# Altium integrated library Maxim Sensors.IntLib: 1172 symbols (part 41 of 61)
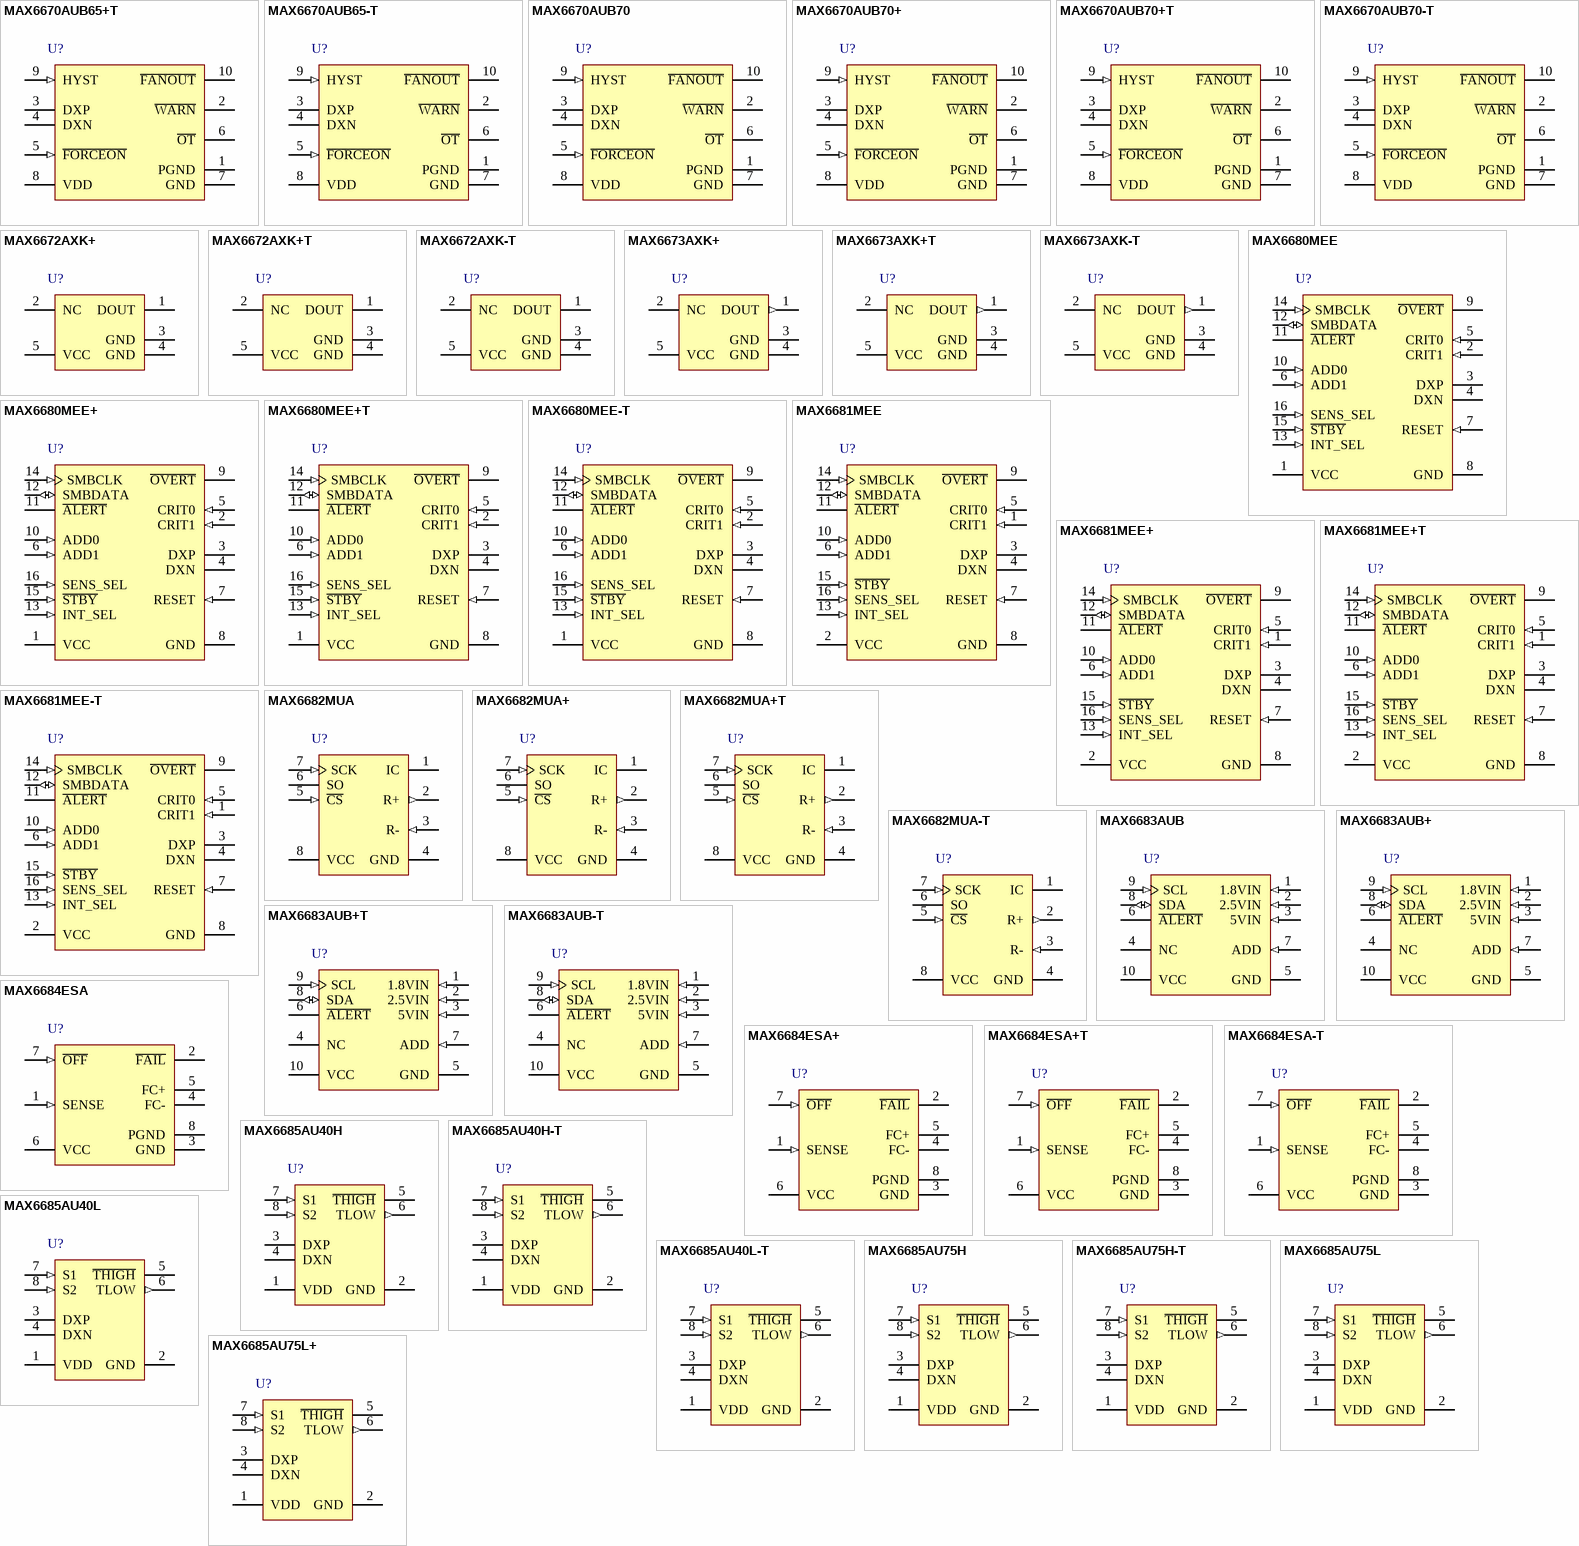
[diagram p73: symbols MAX6670AUB65+T to MAX6685AU75L+]

## MAX6672AXK+T
designator U?
PWM-Output Temperature Sensor with an Open Drain Output, -40 to 125 degC, 5-Pin SOT23 (X5+1), Pb-Free, Tape and Reel; Generic Part Number: MAX6672; PartNumber: MAX6672AXK+T; Interface: PWM; Parasite Pwr.: No; DatasheetVersion: Rev. 0; PackageVersion: Rev. F, 06/2011; PackageReference: X5+1; PackageDescription: 5-Pin SC70 Transistor Package (X5+1), Body 2 x 1.25 mm, Pitch 0.65 mm; Supplier 1: Digi-Key; Supplier Part Number 1: MAX6672AXK+T-ND; Supplier 2: Mouser; Supplier Part Number 2: 700-MAX6672AXKT; Packing: Tape and Reel; Mounting Technology: Surface Mount; Code_JEDEC: MO-203; ComponentLink1Description: Manufacturer URL; ComponentLink1URL: http://www.maximintegrated.com/; ComponentLink2Description: Datasheet; ComponentLink2URL: http://datasheets.maximintegrated.com/en/ds/MAX6672-MAX6673.pdf; ComponentLink3Description: Package Specification; ComponentLink3URL: http://pdfserv.maximintegrated.com/package_dwgs/21-0076.PDF
footprint MAXM-X5+1_N (SOT23, 5-Leads, Body 2x1.25mm, Pitch 0.65mm, IPC Medium Density)
footprint MAXM-X5+1_L (SOT23, 5-Leads, Body 2x1.25mm, Pitch 0.65mm, IPC High Density)
footprint MAXM-X5+1_M (SOT23, 5-Leads, Body 2x1.25mm, Pitch 0.65mm, IPC Low Density)
pins: 1 DOUT (oc) "Digital Output Pin. PWM output, open-drain output (MAX6672)", 2 NC "No Connection. Not internally connected", 3 GND (power) "Pin 3 and Pin 4 must be tied together and connected to ground", 4 GND (power) "Pin 3 and Pin 4 must be tied together and connected to ground", 5 VCC (power) "Positive Supply. Bypass with a 0.1uF capacitor to GND."

## MAX6672AXK-T
designator U?
PWM-Output Temperature Sensor with an Open Drain Output, -40 to 125 degC, 5-Pin SOT23 (X5-1), Tape and Reel; Generic Part Number: MAX6672; PartNumber: MAX6672AXK-T; Interface: PWM; Parasite Pwr.: No; DatasheetVersion: Rev. 0; PackageVersion: Rev. F, 06/2011; PackageReference: X5-1; PackageDescription: 5-Pin SC70 Transistor Package (X5-1), Body 2 x 1.25 mm, Pitch 0.65 mm; Supplier 1: Mouser; Supplier Part Number 1: N/A; Packing: Tape and Reel; Mounting Technology: Surface Mount; Code_JEDEC: MO-203; ComponentLink1Description: Manufacturer URL; ComponentLink1URL: http://www.maximintegrated.com/; ComponentLink2Description: Datasheet; ComponentLink2URL: http://datasheets.maximintegrated.com/en/ds/MAX6672-MAX6673.pdf; ComponentLink3Description: Package Specification; ComponentLink3URL: http://pdfserv.maximintegrated.com/package_dwgs/21-0076.PDF
footprint MAXM-X5-1_N (SOT23, 5-Leads, Body 2x1.25mm, Pitch 0.65mm, IPC Medium Density)
footprint MAXM-X5-1_L (SOT23, 5-Leads, Body 2x1.25mm, Pitch 0.65mm, IPC High Density)
footprint MAXM-X5-1_M (SOT23, 5-Leads, Body 2x1.25mm, Pitch 0.65mm, IPC Low Density)
pins: 1 DOUT (oc) "Digital Output Pin. PWM output, open-drain output (MAX6672)", 2 NC "No Connection. Not internally connected", 3 GND (power) "Pin 3 and Pin 4 must be tied together and connected to ground", 4 GND (power) "Pin 3 and Pin 4 must be tied together and connected to ground", 5 VCC (power) "Positive Supply. Bypass with a 0.1uF capacitor to GND."

## MAX6673AXK+
designator U?
PWM-Output Temperature Sensor with a Push-Pull Output, -40 to 125 degC, 5-Pin SOT23 (X5+1), Pb-Free; Generic Part Number: MAX6673; PartNumber: MAX6673AXK+; Interface: PWM; Parasite Pwr.: No; DatasheetVersion: Rev. 0; PackageVersion: Rev. F, 06/2011; PackageReference: X5+1; PackageDescription: 5-Pin SC70 Transistor Package (X5+1), Body 2 x 1.25 mm, Pitch 0.65 mm; Supplier 1: Mouser; Supplier Part Number 1: N/A; Mounting Technology: Surface Mount; Code_JEDEC: MO-203; ComponentLink1Description: Manufacturer URL; ComponentLink1URL: http://www.maximintegrated.com/; ComponentLink2Description: Datasheet; ComponentLink2URL: http://datasheets.maximintegrated.com/en/ds/MAX6672-MAX6673.pdf; ComponentLink3Description: Package Specification; ComponentLink3URL: http://pdfserv.maximintegrated.com/package_dwgs/21-0076.PDF
footprint MAXM-X5+1_N (SOT23, 5-Leads, Body 2x1.25mm, Pitch 0.65mm, IPC Medium Density)
footprint MAXM-X5+1_L (SOT23, 5-Leads, Body 2x1.25mm, Pitch 0.65mm, IPC High Density)
footprint MAXM-X5+1_M (SOT23, 5-Leads, Body 2x1.25mm, Pitch 0.65mm, IPC Low Density)
pins: 1 DOUT (out) "Digital Output Pin. PWM output, push-pull output (MAX6673).", 2 NC "No Connection. Not internally connected", 3 GND (power) "Pin 3 and Pin 4 must be tied together and connected to ground", 4 GND (power) "Pin 3 and Pin 4 must be tied together and connected to ground", 5 VCC (power) "Positive Supply. Bypass with a 0.1uF capacitor to GND."

## MAX6673AXK+T
designator U?
PWM-Output Temperature Sensor with a Push-Pull Output, -40 to 125 degC, 5-Pin SOT23 (X5+1), Pb-Free, Tape and Reel; Generic Part Number: MAX6673; PartNumber: MAX6673AXK+T; Interface: PWM; Parasite Pwr.: No; DatasheetVersion: Rev. 0; PackageVersion: Rev. F, 06/2011; PackageReference: X5+1; PackageDescription: 5-Pin SC70 Transistor Package (X5+1), Body 2 x 1.25 mm, Pitch 0.65 mm; Supplier 1: Digi-Key; Supplier Part Number 1: MAX6673AXK+TTR-ND; Supplier 2: Digi-Key; Supplier Part Number 2: MAX6673AXK+TCT-ND; Supplier 3: Digi-Key; Supplier Part Number 3: MAX6673AXK+TDKR-ND; Supplier 4: Farnell; Supplier Part Number 4: 1569964; Supplier 5: Mouser; Supplier Part Number 5: 700-MAX6673AXKT; Packing: Tape and Reel; Mounting Technology: Surface Mount; Code_JEDEC: MO-203; ComponentLink1Description: Manufacturer URL; ComponentLink1URL: http://www.maximintegrated.com/; ComponentLink2Description: Datasheet; ComponentLink2URL: http://datasheets.maximintegrated.com/en/ds/MAX6672-MAX6673.pdf; ComponentLink3Description: Package Specification; ComponentLink3URL: http://pdfserv.maximintegrated.com/package_dwgs/21-0076.PDF
footprint MAXM-X5+1_N (SOT23, 5-Leads, Body 2x1.25mm, Pitch 0.65mm, IPC Medium Density)
footprint MAXM-X5+1_L (SOT23, 5-Leads, Body 2x1.25mm, Pitch 0.65mm, IPC High Density)
footprint MAXM-X5+1_M (SOT23, 5-Leads, Body 2x1.25mm, Pitch 0.65mm, IPC Low Density)
pins: 1 DOUT (out) "Digital Output Pin. PWM output, push-pull output (MAX6673).", 2 NC "No Connection. Not internally connected", 3 GND (power) "Pin 3 and Pin 4 must be tied together and connected to ground", 4 GND (power) "Pin 3 and Pin 4 must be tied together and connected to ground", 5 VCC (power) "Positive Supply. Bypass with a 0.1uF capacitor to GND."

## MAX6673AXK-T
designator U?
PWM-Output Temperature Sensor with a Push-Pull Output, -40 to 125 degC, 5-Pin SOT23 (X5-1), Tape and Reel; Generic Part Number: MAX6673; PartNumber: MAX6673AXK-T; Interface: PWM; Parasite Pwr.: No; DatasheetVersion: Rev. 0; PackageVersion: Rev. F, 06/2011; PackageReference: X5-1; PackageDescription: 5-Pin SC70 Transistor Package (X5-1), Body 2 x 1.25 mm, Pitch 0.65 mm; Packing: Tape and Reel; Mounting Technology: Surface Mount; Code_JEDEC: MO-203; ComponentLink1Description: Manufacturer URL; ComponentLink1URL: http://www.maximintegrated.com/; ComponentLink2Description: Datasheet; ComponentLink2URL: http://datasheets.maximintegrated.com/en/ds/MAX6672-MAX6673.pdf; ComponentLink3Description: Package Specification; ComponentLink3URL: http://pdfserv.maximintegrated.com/package_dwgs/21-0076.PDF
footprint MAXM-X5-1_N (SOT23, 5-Leads, Body 2x1.25mm, Pitch 0.65mm, IPC Medium Density)
footprint MAXM-X5-1_L (SOT23, 5-Leads, Body 2x1.25mm, Pitch 0.65mm, IPC High Density)
footprint MAXM-X5-1_M (SOT23, 5-Leads, Body 2x1.25mm, Pitch 0.65mm, IPC Low Density)
pins: 1 DOUT (out) "Digital Output Pin. PWM output, push-pull output (MAX6673).", 2 NC "No Connection. Not internally connected", 3 GND (power) "Pin 3 and Pin 4 must be tied together and connected to ground", 4 GND (power) "Pin 3 and Pin 4 must be tied together and connected to ground", 5 VCC (power) "Positive Supply. Bypass with a 0.1uF capacitor to GND."

## MAX6680MEE
designator U?
+ / -1 degC Fail-Safe Remote / Local Temperature Sensor with SMBus Interface, 11 Bits Temperature Resolution, -55 to 125 degC, 16-Pin SOP (E16-1); Generic Part Number: MAX6680; PartNumber: MAX6680MEE; Alarm Output: Alert, Overt; Functions: Fan Controller, Remote & Local Sensor; Interface: 2-Wire/I2C/SMBus; Multi Droppable: Yes; Parasite Pwr.: No; DatasheetVersion: Rev. 1; PackageVersion: Rev. K, 04/2012; PackageReference: E16-1; PackageDescription: 16-Pin Quarter Small-Outline Package (E16-1), Body 4.90 x 3.89 mm, Pitch 0.635 mm; Mounting Technology: Surface Mount; Code_JEDEC: MO137; ComponentLink1Description: Manufacturer URL; ComponentLink1URL: http://www.maximintegrated.com/; ComponentLink2Description: Datasheet; ComponentLink2URL: http://datasheets.maximintegrated.com/en/ds/MAX6680-MAX6681.pdf; ComponentLink3Description: Package Specification; ComponentLink3URL: http://pdfserv.maximintegrated.com/package_dwgs/21-0055.PDF
footprint MAXM-E16-1_N (SOP, 16-Leads, Body 4.9x3.89mm, Pitch 0.635mm, IPC Medium Density)
footprint MAXM-E16-1_L (SOP, 16-Leads, Body 4.9x3.89mm, Pitch 0.635mm, IPC High Density)
footprint MAXM-E16-1_M (SOP, 16-Leads, Body 4.9x3.89mm, Pitch 0.635mm, IPC Low Density)
pins: 1 VCC (power) "Supply Voltage Input, 3V to 5.5V. Bypass VCC to GND with a 0.1uF capacitor. A 200 ohm series resistor is recommended, but not required for additional noise filtering. See the Typical Operating Circuit.", 2 CRIT1 (in) "Hardware-Programmable Default Alarm Threshold for O\V\E\R\T\ Limits. Use Table 4 to set default temperatures.", 3 DXP "Combined Remote-Diode Current Source and A/D Positive Input for Remote- Diode Channel. DO NOT LEAVE DXP FLOATING; connect DXP to DXN if no remote diode is used. Place a 2200pF capacitor between DXP and DXN for noise (See Datasheet)", 4 DXN "Combined Remote-Diode Current Sink and A/D Negative Input. DXN is internally biased to one diode drop above ground.", 5 CRIT0 (in) "Hardware-Programmable Default Alarm Threshold for O\V\E\R\T\ Limits. Use Table 4 to set default temperatures.", 6 ADD1 (in) "SMBus Address Select Pin (Table 9). ADD0 and ADD1 are sampled upon power-up. Excess capacitance (>50pF) at the address pins when floating may cause address-recognition problems.", 7 RESET (in) "Reset Input. Drive RESET high to set all registers to their default values (POR state). Drive RESET low or leave floating for normal operation.", 8 GND (power) "Ground", 9 ~{OVERT} (oc) "Overtemperature Active-Low Output. Open drain.", 10 ADD0 (in) "SMBus Slave Address Select Pin (see ADD1).", 11 ~{ALERT} (oc) "SMBus Alert (Interrupt) Active-Low Output. Open drain.", 12 SMBDATA (io) "SMBus Serial-Data Input/Output, Open Drain", 13 INT_SEL (in) "Input. Connect high or leave floating to conform to the standard SMBus A\L\E\R\T\ protocol. See the A\L\E\R\T\ Interrupts section. Connect to GND to invoke comparator mode, where A\L\E\R\T\ is asserted whenever any of the (See Datasheet)", 14 SMBCLK (in) "SMBus Serial-Clock Input", 15 ~{STBY} (in) "Input. Hardware Standby. Connect to ground to place in device in standby. Supply current drops below 10uA and all registers’ data are maintained.", 16 SENS_SEL (in) "Input. Selects which temperature sensor (local, remote, or both) activates O\V\E\R\T\"

## MAX6680MEE+
designator U?
+ / -1 degC Fail-Safe Remote / Local Temperature Sensor with SMBus Interface, 11 Bits Temperature Resolution, -55 to 125 degC, 16-Pin SOP (E16+1), Pb-Free; Generic Part Number: MAX6680; PartNumber: MAX6680MEE+; Alarm Output: Alert, Overt; Functions: Fan Controller, Remote & Local Sensor; Interface: 2-Wire/I2C/SMBus; Multi Droppable: Yes; Parasite Pwr.: No; DatasheetVersion: Rev. 1; PackageVersion: Rev. K, 04/2012; PackageReference: E16+1; PackageDescription: 16-Pin Quarter Small-Outline Package (E16+1), Body 4.90 x 3.89 mm, Pitch 0.635 mm; Supplier 1: Digi-Key; Supplier Part Number 1: MAX6680MEE+-ND; Supplier 2: Mouser; Supplier Part Number 2: 700-MAX6680MEE; Mounting Technology: Surface Mount; Code_JEDEC: MO137; ComponentLink1Description: Manufacturer URL; ComponentLink1URL: http://www.maximintegrated.com/; ComponentLink2Description: Datasheet; ComponentLink2URL: http://datasheets.maximintegrated.com/en/ds/MAX6680-MAX6681.pdf; ComponentLink3Description: Package Specification; ComponentLink3URL: http://pdfserv.maximintegrated.com/package_dwgs/21-0055.PDF
footprint MAXM-E16+1_N (SOP, 16-Leads, Body 4.9x3.89mm, Pitch 0.635mm, IPC Medium Density)
footprint MAXM-E16+1_L (SOP, 16-Leads, Body 4.9x3.89mm, Pitch 0.635mm, IPC High Density)
footprint MAXM-E16+1_M (SOP, 16-Leads, Body 4.9x3.89mm, Pitch 0.635mm, IPC Low Density)
pins: 1 VCC (power) "Supply Voltage Input, 3V to 5.5V. Bypass VCC to GND with a 0.1uF capacitor. A 200 ohm series resistor is recommended, but not required for additional noise filtering. See the Typical Operating Circuit.", 2 CRIT1 (in) "Hardware-Programmable Default Alarm Threshold for O\V\E\R\T\ Limits. Use Table 4 to set default temperatures.", 3 DXP "Combined Remote-Diode Current Source and A/D Positive Input for Remote- Diode Channel. DO NOT LEAVE DXP FLOATING; connect DXP to DXN if no remote diode is used. Place a 2200pF capacitor between DXP and DXN for noise (See Datasheet)", 4 DXN "Combined Remote-Diode Current Sink and A/D Negative Input. DXN is internally biased to one diode drop above ground.", 5 CRIT0 (in) "Hardware-Programmable Default Alarm Threshold for O\V\E\R\T\ Limits. Use Table 4 to set default temperatures.", 6 ADD1 (in) "SMBus Address Select Pin (Table 9). ADD0 and ADD1 are sampled upon power-up. Excess capacitance (>50pF) at the address pins when floating may cause address-recognition problems.", 7 RESET (in) "Reset Input. Drive RESET high to set all registers to their default values (POR state). Drive RESET low or leave floating for normal operation.", 8 GND (power) "Ground", 9 ~{OVERT} (oc) "Overtemperature Active-Low Output. Open drain.", 10 ADD0 (in) "SMBus Slave Address Select Pin (see ADD1).", 11 ~{ALERT} (oc) "SMBus Alert (Interrupt) Active-Low Output. Open drain.", 12 SMBDATA (io) "SMBus Serial-Data Input/Output, Open Drain", 13 INT_SEL (in) "Input. Connect high or leave floating to conform to the standard SMBus A\L\E\R\T\ protocol. See the A\L\E\R\T\ Interrupts section. Connect to GND to invoke comparator mode, where A\L\E\R\T\ is asserted whenever any of the (See Datasheet)", 14 SMBCLK (in) "SMBus Serial-Clock Input", 15 ~{STBY} (in) "Input. Hardware Standby. Connect to ground to place in device in standby. Supply current drops below 10uA and all registers’ data are maintained.", 16 SENS_SEL (in) "Input. Selects which temperature sensor (local, remote, or both) activates O\V\E\R\T\"

## MAX6680MEE+T
designator U?
+ / -1 degC Fail-Safe Remote / Local Temperature Sensor with SMBus Interface, 11 Bits Temperature Resolution, -55 to 125 degC, 16-Pin SOP (E16+1), Pb-Free, Tape and Reel; Generic Part Number: MAX6680; PartNumber: MAX6680MEE+T; Alarm Output: Alert, Overt; Functions: Fan Controller, Remote & Local Sensor; Interface: 2-Wire/I2C/SMBus; Multi Droppable: Yes; Parasite Pwr.: No; DatasheetVersion: Rev. 1; PackageVersion: Rev. K, 04/2012; PackageReference: E16+1; PackageDescription: 16-Pin Quarter Small-Outline Package (E16+1), Body 4.90 x 3.89 mm, Pitch 0.635 mm; Supplier 1: Digi-Key; Supplier Part Number 1: MAX6680MEE+T-ND; Supplier 2: Mouser; Supplier Part Number 2: 700-MAX6680MEET; Packing: Tape and Reel; Mounting Technology: Surface Mount; Code_JEDEC: MO137; ComponentLink1Description: Manufacturer URL; ComponentLink1URL: http://www.maximintegrated.com/; ComponentLink2Description: Datasheet; ComponentLink2URL: http://datasheets.maximintegrated.com/en/ds/MAX6680-MAX6681.pdf; ComponentLink3Description: Package Specification; ComponentLink3URL: http://pdfserv.maximintegrated.com/package_dwgs/21-0055.PDF
footprint MAXM-E16+1_N (SOP, 16-Leads, Body 4.9x3.89mm, Pitch 0.635mm, IPC Medium Density)
footprint MAXM-E16+1_L (SOP, 16-Leads, Body 4.9x3.89mm, Pitch 0.635mm, IPC High Density)
footprint MAXM-E16+1_M (SOP, 16-Leads, Body 4.9x3.89mm, Pitch 0.635mm, IPC Low Density)
pins: 1 VCC (power) "Supply Voltage Input, 3V to 5.5V. Bypass VCC to GND with a 0.1uF capacitor. A 200 ohm series resistor is recommended, but not required for additional noise filtering. See the Typical Operating Circuit.", 2 CRIT1 (in) "Hardware-Programmable Default Alarm Threshold for O\V\E\R\T\ Limits. Use Table 4 to set default temperatures.", 3 DXP "Combined Remote-Diode Current Source and A/D Positive Input for Remote- Diode Channel. DO NOT LEAVE DXP FLOATING; connect DXP to DXN if no remote diode is used. Place a 2200pF capacitor between DXP and DXN for noise (See Datasheet)", 4 DXN "Combined Remote-Diode Current Sink and A/D Negative Input. DXN is internally biased to one diode drop above ground.", 5 CRIT0 (in) "Hardware-Programmable Default Alarm Threshold for O\V\E\R\T\ Limits. Use Table 4 to set default temperatures.", 6 ADD1 (in) "SMBus Address Select Pin (Table 9). ADD0 and ADD1 are sampled upon power-up. Excess capacitance (>50pF) at the address pins when floating may cause address-recognition problems.", 7 RESET (in) "Reset Input. Drive RESET high to set all registers to their default values (POR state). Drive RESET low or leave floating for normal operation.", 8 GND (power) "Ground", 9 ~{OVERT} (oc) "Overtemperature Active-Low Output. Open drain.", 10 ADD0 (in) "SMBus Slave Address Select Pin (see ADD1).", 11 ~{ALERT} (oc) "SMBus Alert (Interrupt) Active-Low Output. Open drain.", 12 SMBDATA (io) "SMBus Serial-Data Input/Output, Open Drain", 13 INT_SEL (in) "Input. Connect high or leave floating to conform to the standard SMBus A\L\E\R\T\ protocol. See the A\L\E\R\T\ Interrupts section. Connect to GND to invoke comparator mode, where A\L\E\R\T\ is asserted whenever any of the (See Datasheet)", 14 SMBCLK (in) "SMBus Serial-Clock Input", 15 ~{STBY} (in) "Input. Hardware Standby. Connect to ground to place in device in standby. Supply current drops below 10uA and all registers’ data are maintained.", 16 SENS_SEL (in) "Input. Selects which temperature sensor (local, remote, or both) activates O\V\E\R\T\"

## MAX6680MEE-T
designator U?
+ / -1 degC Fail-Safe Remote / Local Temperature Sensor with SMBus Interface, 11 Bits Temperature Resolution, -55 to 125 degC, 16-Pin SOP (E16-1), Tape and Reel; Generic Part Number: MAX6680; PartNumber: MAX6680MEE-T; Alarm Output: Alert, Overt; Functions: Fan Controller, Remote & Local Sensor; Interface: 2-Wire/I2C/SMBus; Multi Droppable: Yes; Parasite Pwr.: No; DatasheetVersion: Rev. 1; PackageVersion: Rev. K, 04/2012; PackageReference: E16-1; PackageDescription: 16-Pin Quarter Small-Outline Package (E16-1), Body 4.90 x 3.89 mm, Pitch 0.635 mm; Supplier 1: Mouser; Supplier Part Number 1: N/A; Packing: Tape and Reel; Mounting Technology: Surface Mount; Code_JEDEC: MO137; ComponentLink1Description: Manufacturer URL; ComponentLink1URL: http://www.maximintegrated.com/; ComponentLink2Description: Datasheet; ComponentLink2URL: http://datasheets.maximintegrated.com/en/ds/MAX6680-MAX6681.pdf; ComponentLink3Description: Package Specification; ComponentLink3URL: http://pdfserv.maximintegrated.com/package_dwgs/21-0055.PDF
footprint MAXM-E16-1_N (SOP, 16-Leads, Body 4.9x3.89mm, Pitch 0.635mm, IPC Medium Density)
footprint MAXM-E16-1_L (SOP, 16-Leads, Body 4.9x3.89mm, Pitch 0.635mm, IPC High Density)
footprint MAXM-E16-1_M (SOP, 16-Leads, Body 4.9x3.89mm, Pitch 0.635mm, IPC Low Density)
pins: 1 VCC (power) "Supply Voltage Input, 3V to 5.5V. Bypass VCC to GND with a 0.1uF capacitor. A 200 ohm series resistor is recommended, but not required for additional noise filtering. See the Typical Operating Circuit.", 2 CRIT1 (in) "Hardware-Programmable Default Alarm Threshold for O\V\E\R\T\ Limits. Use Table 4 to set default temperatures.", 3 DXP "Combined Remote-Diode Current Source and A/D Positive Input for Remote- Diode Channel. DO NOT LEAVE DXP FLOATING; connect DXP to DXN if no remote diode is used. Place a 2200pF capacitor between DXP and DXN for noise (See Datasheet)", 4 DXN "Combined Remote-Diode Current Sink and A/D Negative Input. DXN is internally biased to one diode drop above ground.", 5 CRIT0 (in) "Hardware-Programmable Default Alarm Threshold for O\V\E\R\T\ Limits. Use Table 4 to set default temperatures.", 6 ADD1 (in) "SMBus Address Select Pin (Table 9). ADD0 and ADD1 are sampled upon power-up. Excess capacitance (>50pF) at the address pins when floating may cause address-recognition problems.", 7 RESET (in) "Reset Input. Drive RESET high to set all registers to their default values (POR state). Drive RESET low or leave floating for normal operation.", 8 GND (power) "Ground", 9 ~{OVERT} (oc) "Overtemperature Active-Low Output. Open drain.", 10 ADD0 (in) "SMBus Slave Address Select Pin (see ADD1).", 11 ~{ALERT} (oc) "SMBus Alert (Interrupt) Active-Low Output. Open drain.", 12 SMBDATA (io) "SMBus Serial-Data Input/Output, Open Drain", 13 INT_SEL (in) "Input. Connect high or leave floating to conform to the standard SMBus A\L\E\R\T\ protocol. See the A\L\E\R\T\ Interrupts section. Connect to GND to invoke comparator mode, where A\L\E\R\T\ is asserted whenever any of the (See Datasheet)", 14 SMBCLK (in) "SMBus Serial-Clock Input", 15 ~{STBY} (in) "Input. Hardware Standby. Connect to ground to place in device in standby. Supply current drops below 10uA and all registers’ data are maintained.", 16 SENS_SEL (in) "Input. Selects which temperature sensor (local, remote, or both) activates O\V\E\R\T\"

## MAX6681MEE
designator U?
+ / -1 degC Fail-Safe Remote / Local Temperature Sensor with SMBus Interface, 11 Bits Temperature Resolution, -55 to 125 degC, 16-Pin SOP (E16-1); Generic Part Number: MAX6681; PartNumber: MAX6681MEE; Alarm Output: Alert, Overt; Functions: Fan Controller, Remote & Local Sensor; Interface: 2-Wire/I2C/SMBus; Multi Droppable: Yes; Parasite Pwr.: No; DatasheetVersion: Rev. 1; PackageVersion: Rev. K, 04/2012; PackageReference: E16-1; PackageDescription: 16-Pin Quarter Small-Outline Package (E16-1), Body 4.90 x 3.89 mm, Pitch 0.635 mm; Supplier 1: Mouser; Supplier Part Number 1: N/A; Mounting Technology: Surface Mount; Code_JEDEC: MO137; ComponentLink1Description: Manufacturer URL; ComponentLink1URL: http://www.maximintegrated.com/; ComponentLink2Description: Datasheet; ComponentLink2URL: http://datasheets.maximintegrated.com/en/ds/MAX6680-MAX6681.pdf; ComponentLink3Description: Package Specification; ComponentLink3URL: http://pdfserv.maximintegrated.com/package_dwgs/21-0055.PDF
footprint MAXM-E16-1_N (SOP, 16-Leads, Body 4.9x3.89mm, Pitch 0.635mm, IPC Medium Density)
footprint MAXM-E16-1_L (SOP, 16-Leads, Body 4.9x3.89mm, Pitch 0.635mm, IPC High Density)
footprint MAXM-E16-1_M (SOP, 16-Leads, Body 4.9x3.89mm, Pitch 0.635mm, IPC Low Density)
pins: 1 CRIT1 (in) "Hardware-Programmable Default Alarm Threshold for O\V\E\R\T\ Limits. Use Table 4 to set default temperatures.", 2 VCC (power) "Supply Voltage Input, 3V to 5.5V. Bypass VCC to GND with a 0.1uF capacitor. A 200 ohm series resistor is recommended, but not required for additional noise filtering. See the Typical Operating Circuit.", 3 DXP "Combined Remote-Diode Current Source and A/D Positive Input for Remote- Diode Channel. DO NOT LEAVE DXP FLOATING; connect DXP to DXN if no remote diode is used. Place a 2200pF capacitor between DXP and DXN for noise (See Datasheet)", 4 DXN "Combined Remote-Diode Current Sink and A/D Negative Input. DXN is internally biased to one diode drop above ground.", 5 CRIT0 (in) "Hardware-Programmable Default Alarm Threshold for O\V\E\R\T\ Limits. Use Table 4 to set default temperatures.", 6 ADD1 (in) "SMBus Address Select Pin (Table 9). ADD0 and ADD1 are sampled upon power-up. Excess capacitance (>50pF) at the address pins when floating may cause address-recognition problems.", 7 RESET (in) "Reset Input. Drive RESET high to set all registers to their default values (POR state). Drive RESET low or leave floating for normal operation.", 8 GND (power) "Ground", 9 ~{OVERT} (oc) "Overtemperature Active-Low Output. Open drain.", 10 ADD0 (in) "SMBus Slave Address Select Pin (see ADD1).", 11 ~{ALERT} (oc) "SMBus Alert (Interrupt) Active-Low Output. Open drain.", 12 SMBDATA (io) "SMBus Serial-Data Input/Output, Open Drain", 13 INT_SEL (in) "Input. Connect high or leave floating to conform to the standard SMBus A\L\E\R\T\ protocol. See the A\L\E\R\T\ Interrupts section. Connect to GND to invoke comparator mode, where A\L\E\R\T\ is asserted whenever any of the (See Datasheet)", 14 SMBCLK (in) "SMBus Serial-Clock Input", 15 ~{STBY} (in) "Input. Hardware Standby. Connect to ground to place in device in standby. Supply current drops below 10uA and all registers’ data are maintained.", 16 SENS_SEL (in) "Input. Selects which temperature sensor (local, remote, or both) activates O\V\E\R\T\"

## MAX6681MEE+
designator U?
+ / -1 degC Fail-Safe Remote / Local Temperature Sensor with SMBus Interface, 11 Bits Temperature Resolution, -55 to 125 degC, 16-Pin SOP (E16+1), Pb-Free; Generic Part Number: MAX6681; PartNumber: MAX6681MEE+; Alarm Output: Alert, Overt; Functions: Fan Controller, Remote & Local Sensor; Interface: 2-Wire/I2C/SMBus; Multi Droppable: Yes; Parasite Pwr.: No; DatasheetVersion: Rev. 1; PackageVersion: Rev. K, 04/2012; PackageReference: E16+1; PackageDescription: 16-Pin Quarter Small-Outline Package (E16+1), Body 4.90 x 3.89 mm, Pitch 0.635 mm; Supplier 1: Digi-Key; Supplier Part Number 1: MAX6681MEE+-ND; Supplier 2: Newark; Supplier Part Number 2: 73K8769; Supplier 3: Mouser; Supplier Part Number 3: 700-MAX6681MEE; Mounting Technology: Surface Mount; Code_JEDEC: MO137; ComponentLink1Description: Manufacturer URL; ComponentLink1URL: http://www.maximintegrated.com/; ComponentLink2Description: Datasheet; ComponentLink2URL: http://datasheets.maximintegrated.com/en/ds/MAX6680-MAX6681.pdf; ComponentLink3Description: Package Specification; ComponentLink3URL: http://pdfserv.maximintegrated.com/package_dwgs/21-0055.PDF
footprint MAXM-E16+1_N (SOP, 16-Leads, Body 4.9x3.89mm, Pitch 0.635mm, IPC Medium Density)
footprint MAXM-E16+1_L (SOP, 16-Leads, Body 4.9x3.89mm, Pitch 0.635mm, IPC High Density)
footprint MAXM-E16+1_M (SOP, 16-Leads, Body 4.9x3.89mm, Pitch 0.635mm, IPC Low Density)
pins: 1 CRIT1 (in) "Hardware-Programmable Default Alarm Threshold for O\V\E\R\T\ Limits. Use Table 4 to set default temperatures.", 2 VCC (power) "Supply Voltage Input, 3V to 5.5V. Bypass VCC to GND with a 0.1uF capacitor. A 200 ohm series resistor is recommended, but not required for additional noise filtering. See the Typical Operating Circuit.", 3 DXP "Combined Remote-Diode Current Source and A/D Positive Input for Remote- Diode Channel. DO NOT LEAVE DXP FLOATING; connect DXP to DXN if no remote diode is used. Place a 2200pF capacitor between DXP and DXN for noise (See Datasheet)", 4 DXN "Combined Remote-Diode Current Sink and A/D Negative Input. DXN is internally biased to one diode drop above ground.", 5 CRIT0 (in) "Hardware-Programmable Default Alarm Threshold for O\V\E\R\T\ Limits. Use Table 4 to set default temperatures.", 6 ADD1 (in) "SMBus Address Select Pin (Table 9). ADD0 and ADD1 are sampled upon power-up. Excess capacitance (>50pF) at the address pins when floating may cause address-recognition problems.", 7 RESET (in) "Reset Input. Drive RESET high to set all registers to their default values (POR state). Drive RESET low or leave floating for normal operation.", 8 GND (power) "Ground", 9 ~{OVERT} (oc) "Overtemperature Active-Low Output. Open drain.", 10 ADD0 (in) "SMBus Slave Address Select Pin (see ADD1).", 11 ~{ALERT} (oc) "SMBus Alert (Interrupt) Active-Low Output. Open drain.", 12 SMBDATA (io) "SMBus Serial-Data Input/Output, Open Drain", 13 INT_SEL (in) "Input. Connect high or leave floating to conform to the standard SMBus A\L\E\R\T\ protocol. See the A\L\E\R\T\ Interrupts section. Connect to GND to invoke comparator mode, where A\L\E\R\T\ is asserted whenever any of the (See Datasheet)", 14 SMBCLK (in) "SMBus Serial-Clock Input", 15 ~{STBY} (in) "Input. Hardware Standby. Connect to ground to place in device in standby. Supply current drops below 10uA and all registers’ data are maintained.", 16 SENS_SEL (in) "Input. Selects which temperature sensor (local, remote, or both) activates O\V\E\R\T\"

## MAX6681MEE+T
designator U?
+ / -1 degC Fail-Safe Remote / Local Temperature Sensor with SMBus Interface, 11 Bits Temperature Resolution, -55 to 125 degC, 16-Pin SOP (E16+1), Pb-Free, Tape and Reel; Generic Part Number: MAX6681; PartNumber: MAX6681MEE+T; Alarm Output: Alert, Overt; Functions: Fan Controller, Remote & Local Sensor; Interface: 2-Wire/I2C/SMBus; Multi Droppable: Yes; Parasite Pwr.: No; DatasheetVersion: Rev. 1; PackageVersion: Rev. K, 04/2012; PackageReference: E16+1; PackageDescription: 16-Pin Quarter Small-Outline Package (E16+1), Body 4.90 x 3.89 mm, Pitch 0.635 mm; Supplier 1: Digi-Key; Supplier Part Number 1: MAX6681MEE+T-ND; Supplier 2: Mouser; Supplier Part Number 2: 700-MAX6681MEET; Packing: Tape and Reel; Mounting Technology: Surface Mount; Code_JEDEC: MO137; ComponentLink1Description: Manufacturer URL; ComponentLink1URL: http://www.maximintegrated.com/; ComponentLink2Description: Datasheet; ComponentLink2URL: http://datasheets.maximintegrated.com/en/ds/MAX6680-MAX6681.pdf; ComponentLink3Description: Package Specification; ComponentLink3URL: http://pdfserv.maximintegrated.com/package_dwgs/21-0055.PDF
footprint MAXM-E16+1_N (SOP, 16-Leads, Body 4.9x3.89mm, Pitch 0.635mm, IPC Medium Density)
footprint MAXM-E16+1_L (SOP, 16-Leads, Body 4.9x3.89mm, Pitch 0.635mm, IPC High Density)
footprint MAXM-E16+1_M (SOP, 16-Leads, Body 4.9x3.89mm, Pitch 0.635mm, IPC Low Density)
pins: 1 CRIT1 (in) "Hardware-Programmable Default Alarm Threshold for O\V\E\R\T\ Limits. Use Table 4 to set default temperatures.", 2 VCC (power) "Supply Voltage Input, 3V to 5.5V. Bypass VCC to GND with a 0.1uF capacitor. A 200 ohm series resistor is recommended, but not required for additional noise filtering. See the Typical Operating Circuit.", 3 DXP "Combined Remote-Diode Current Source and A/D Positive Input for Remote- Diode Channel. DO NOT LEAVE DXP FLOATING; connect DXP to DXN if no remote diode is used. Place a 2200pF capacitor between DXP and DXN for noise (See Datasheet)", 4 DXN "Combined Remote-Diode Current Sink and A/D Negative Input. DXN is internally biased to one diode drop above ground.", 5 CRIT0 (in) "Hardware-Programmable Default Alarm Threshold for O\V\E\R\T\ Limits. Use Table 4 to set default temperatures.", 6 ADD1 (in) "SMBus Address Select Pin (Table 9). ADD0 and ADD1 are sampled upon power-up. Excess capacitance (>50pF) at the address pins when floating may cause address-recognition problems.", 7 RESET (in) "Reset Input. Drive RESET high to set all registers to their default values (POR state). Drive RESET low or leave floating for normal operation.", 8 GND (power) "Ground", 9 ~{OVERT} (oc) "Overtemperature Active-Low Output. Open drain.", 10 ADD0 (in) "SMBus Slave Address Select Pin (see ADD1).", 11 ~{ALERT} (oc) "SMBus Alert (Interrupt) Active-Low Output. Open drain.", 12 SMBDATA (io) "SMBus Serial-Data Input/Output, Open Drain", 13 INT_SEL (in) "Input. Connect high or leave floating to conform to the standard SMBus A\L\E\R\T\ protocol. See the A\L\E\R\T\ Interrupts section. Connect to GND to invoke comparator mode, where A\L\E\R\T\ is asserted whenever any of the (See Datasheet)", 14 SMBCLK (in) "SMBus Serial-Clock Input", 15 ~{STBY} (in) "Input. Hardware Standby. Connect to ground to place in device in standby. Supply current drops below 10uA and all registers’ data are maintained.", 16 SENS_SEL (in) "Input. Selects which temperature sensor (local, remote, or both) activates O\V\E\R\T\"

## MAX6681MEE-T
designator U?
+ / -1 degC Fail-Safe Remote / Local Temperature Sensor with SMBus Interface, 11 Bits Temperature Resolution, -55 to 125 degC, 16-Pin SOP (E16-1), Tape and Reel; Generic Part Number: MAX6681; PartNumber: MAX6681MEE-T; Alarm Output: Alert, Overt; Functions: Fan Controller, Remote & Local Sensor; Interface: 2-Wire/I2C/SMBus; Multi Droppable: Yes; Parasite Pwr.: No; DatasheetVersion: Rev. 1; PackageVersion: Rev. K, 04/2012; PackageReference: E16-1; PackageDescription: 16-Pin Quarter Small-Outline Package (E16-1), Body 4.90 x 3.89 mm, Pitch 0.635 mm; Supplier 1: Mouser; Supplier Part Number 1: N/A; Packing: Tape and Reel; Mounting Technology: Surface Mount; Code_JEDEC: MO137; ComponentLink1Description: Manufacturer URL; ComponentLink1URL: http://www.maximintegrated.com/; ComponentLink2Description: Datasheet; ComponentLink2URL: http://datasheets.maximintegrated.com/en/ds/MAX6680-MAX6681.pdf; ComponentLink3Description: Package Specification; ComponentLink3URL: http://pdfserv.maximintegrated.com/package_dwgs/21-0055.PDF
footprint MAXM-E16-1_N (SOP, 16-Leads, Body 4.9x3.89mm, Pitch 0.635mm, IPC Medium Density)
footprint MAXM-E16-1_L (SOP, 16-Leads, Body 4.9x3.89mm, Pitch 0.635mm, IPC High Density)
footprint MAXM-E16-1_M (SOP, 16-Leads, Body 4.9x3.89mm, Pitch 0.635mm, IPC Low Density)
pins: 1 CRIT1 (in) "Hardware-Programmable Default Alarm Threshold for O\V\E\R\T\ Limits. Use Table 4 to set default temperatures.", 2 VCC (power) "Supply Voltage Input, 3V to 5.5V. Bypass VCC to GND with a 0.1uF capacitor. A 200 ohm series resistor is recommended, but not required for additional noise filtering. See the Typical Operating Circuit.", 3 DXP "Combined Remote-Diode Current Source and A/D Positive Input for Remote- Diode Channel. DO NOT LEAVE DXP FLOATING; connect DXP to DXN if no remote diode is used. Place a 2200pF capacitor between DXP and DXN for noise (See Datasheet)", 4 DXN "Combined Remote-Diode Current Sink and A/D Negative Input. DXN is internally biased to one diode drop above ground.", 5 CRIT0 (in) "Hardware-Programmable Default Alarm Threshold for O\V\E\R\T\ Limits. Use Table 4 to set default temperatures.", 6 ADD1 (in) "SMBus Address Select Pin (Table 9). ADD0 and ADD1 are sampled upon power-up. Excess capacitance (>50pF) at the address pins when floating may cause address-recognition problems.", 7 RESET (in) "Reset Input. Drive RESET high to set all registers to their default values (POR state). Drive RESET low or leave floating for normal operation.", 8 GND (power) "Ground", 9 ~{OVERT} (oc) "Overtemperature Active-Low Output. Open drain.", 10 ADD0 (in) "SMBus Slave Address Select Pin (see ADD1).", 11 ~{ALERT} (oc) "SMBus Alert (Interrupt) Active-Low Output. Open drain.", 12 SMBDATA (io) "SMBus Serial-Data Input/Output, Open Drain", 13 INT_SEL (in) "Input. Connect high or leave floating to conform to the standard SMBus A\L\E\R\T\ protocol. See the A\L\E\R\T\ Interrupts section. Connect to GND to invoke comparator mode, where A\L\E\R\T\ is asserted whenever any of the (See Datasheet)", 14 SMBCLK (in) "SMBus Serial-Clock Input", 15 ~{STBY} (in) "Input. Hardware Standby. Connect to ground to place in device in standby. Supply current drops below 10uA and all registers’ data are maintained.", 16 SENS_SEL (in) "Input. Selects which temperature sensor (local, remote, or both) activates O\V\E\R\T\"

## MAX6682MUA
designator U?
Thermistor-to-Digital Converter, 10 Bits Temperature Resolution, -55 to 125 degC, 8-Pin SOP (U8-1); Generic Part Number: MAX6682; PartNumber: MAX6682MUA; Interface: 3-Wire/SPI; Parasite Pwr.: No; DatasheetVersion: Rev. 0; PackageVersion: Rev. L, 08/2009; PackageReference: U8-1; PackageDescription: 8-Pin Micro-MAX, Thin Shrink Small-Outline (U8-1), Body 3 x 3 mm, Pitch 0.65mm; Supplier 1: Mouser; Supplier Part Number 1: N/A; Functions: Thermistor-to-Digital Converter; Mounting Technology: Surface Mount; Code_JEDEC: MO-187; ComponentLink1Description: Manufacturer URL; ComponentLink1URL: http://www.maximintegrated.com/; ComponentLink2Description: Datasheet; ComponentLink2URL: http://datasheets.maximintegrated.com/en/ds/MAX6682.pdf; ComponentLink3Description: Package Specification; ComponentLink3URL: http://pdfserv.maximintegrated.com/package_dwgs/21-0036.PDF
footprint MAXM-U8-1_N (SOP, 8-Leads, Body 3x3mm, Pitch 0.65mm, IPC Medium Density)
footprint MAXM-U8-1_L (SOP, 8-Leads, Body 3x3mm, Pitch 0.65mm, IPC High Density)
footprint MAXM-U8-1_M (SOP, 8-Leads, Body 3x3mm, Pitch 0.65mm, IPC Low Density)
pins: 1 IC "Internally Connected. Connect to GND or leave unconnected.", 2 R+ (out) "Reference Voltage Output. External resistor positive input.", 3 R- (in) "External Resistor Negative Input. Connect R- to the junction of the external resistor and the thermistor.", 4 GND (power) "Ground. Ground connection for MAX6682 and ground return for external thermistor.", 5 ~{CS} (in) "Chip Select. Drive C\S\ low to enable the serial interface.", 6 SO (hiz) "Serial Data Output", 7 SCK (in) "Serial Clock Input", 8 VCC (power) "Positive Supply. Bypass VCC to GND with a 0.1uF capacitor."

## MAX6682MUA+
designator U?
Thermistor-to-Digital Converter, 10 Bits Temperature Resolution, -55 to 125 degC, 8-Pin SOP (U8+1), Pb-Free; Generic Part Number: MAX6682; PartNumber: MAX6682MUA+; Interface: 3-Wire/SPI; Parasite Pwr.: No; DatasheetVersion: Rev. 0; PackageVersion: Rev. L, 08/2009; PackageReference: U8+1; PackageDescription: 8-Pin Micro-MAX, Thin Shrink Small-Outline (U8+1), Body 3 x 3 mm, Pitch 0.65 mm; Supplier 1: Digi-Key; Supplier Part Number 1: MAX6682MUA+-ND; Supplier 2: Mouser; Supplier Part Number 2: 700-MAX6682MUA; Functions: Thermistor-to-Digital Converter; Mounting Technology: Surface Mount; Code_JEDEC: MO-187; ComponentLink1Description: Manufacturer URL; ComponentLink1URL: http://www.maximintegrated.com/; ComponentLink2Description: Datasheet; ComponentLink2URL: http://datasheets.maximintegrated.com/en/ds/MAX6682.pdf; ComponentLink3Description: Package Specification; ComponentLink3URL: http://pdfserv.maximintegrated.com/package_dwgs/21-0036.PDF
footprint MAXM-U8+1_N (SOP, 8-Leads, Body 3x3mm, Pitch 0.65mm, IPC Medium Density)
footprint MAXM-U8+1_L (SOP, 8-Leads, Body 3x3mm, Pitch 0.65mm, IPC High Density)
footprint MAXM-U8+1_M (SOP, 8-Leads, Body 3x3mm, Pitch 0.65mm, IPC Low Density)
pins: 1 IC "Internally Connected. Connect to GND or leave unconnected.", 2 R+ (out) "Reference Voltage Output. External resistor positive input.", 3 R- (in) "External Resistor Negative Input. Connect R- to the junction of the external resistor and the thermistor.", 4 GND (power) "Ground. Ground connection for MAX6682 and ground return for external thermistor.", 5 ~{CS} (in) "Chip Select. Drive C\S\ low to enable the serial interface.", 6 SO (hiz) "Serial Data Output", 7 SCK (in) "Serial Clock Input", 8 VCC (power) "Positive Supply. Bypass VCC to GND with a 0.1uF capacitor."

## MAX6682MUA+T
designator U?
Thermistor-to-Digital Converter, 10 Bits Temperature Resolution, -55 to 125 degC, 8-Pin SOP (U8+1), Pb-Free, Tape and Reel; Generic Part Number: MAX6682; PartNumber: MAX6682MUA+T; Interface: 3-Wire/SPI; Parasite Pwr.: No; DatasheetVersion: Rev. 0; PackageVersion: Rev. L, 08/2009; PackageReference: U8+1; PackageDescription: 8-Pin Micro-MAX, Thin Shrink Small-Outline (U8+1), Body 3 x 3 mm, Pitch 0.65 mm; Supplier 1: Digi-Key; Supplier Part Number 1: MAX6682MUA+T-ND; Supplier 2: Mouser; Supplier Part Number 2: 700-MAX6682MUAT; Functions: Thermistor-to-Digital Converter; Packing: Tape and Reel; Mounting Technology: Surface Mount; Code_JEDEC: MO-187; ComponentLink1Description: Manufacturer URL; ComponentLink1URL: http://www.maximintegrated.com/; ComponentLink2Description: Datasheet; ComponentLink2URL: http://datasheets.maximintegrated.com/en/ds/MAX6682.pdf; ComponentLink3Description: Package Specification; ComponentLink3URL: http://pdfserv.maximintegrated.com/package_dwgs/21-0036.PDF
footprint MAXM-U8+1_N (SOP, 8-Leads, Body 3x3mm, Pitch 0.65mm, IPC Medium Density)
footprint MAXM-U8+1_L (SOP, 8-Leads, Body 3x3mm, Pitch 0.65mm, IPC High Density)
footprint MAXM-U8+1_M (SOP, 8-Leads, Body 3x3mm, Pitch 0.65mm, IPC Low Density)
pins: 1 IC "Internally Connected. Connect to GND or leave unconnected.", 2 R+ (out) "Reference Voltage Output. External resistor positive input.", 3 R- (in) "External Resistor Negative Input. Connect R- to the junction of the external resistor and the thermistor.", 4 GND (power) "Ground. Ground connection for MAX6682 and ground return for external thermistor.", 5 ~{CS} (in) "Chip Select. Drive C\S\ low to enable the serial interface.", 6 SO (hiz) "Serial Data Output", 7 SCK (in) "Serial Clock Input", 8 VCC (power) "Positive Supply. Bypass VCC to GND with a 0.1uF capacitor."

## MAX6682MUA-T
designator U?
Thermistor-to-Digital Converter, 10 Bits Temperature Resolution, -55 to 125 degC, 8-Pin SOP (U8-1), Tape and Reel; Generic Part Number: MAX6682; PartNumber: MAX6682MUA-T; Interface: 3-Wire/SPI; Parasite Pwr.: No; DatasheetVersion: Rev. 0; PackageVersion: Rev. L, 08/2009; PackageReference: U8-1; PackageDescription: 8-Pin Micro-MAX, Thin Shrink Small-Outline (U8-1), Body 3 x 3 mm, Pitch 0.65mm; Supplier 1: Mouser; Supplier Part Number 1: N/A; Functions: Thermistor-to-Digital Converter; Packing: Tape and Reel; Mounting Technology: Surface Mount; Code_JEDEC: MO-187; ComponentLink1Description: Manufacturer URL; ComponentLink1URL: http://www.maximintegrated.com/; ComponentLink2Description: Datasheet; ComponentLink2URL: http://datasheets.maximintegrated.com/en/ds/MAX6682.pdf; ComponentLink3Description: Package Specification; ComponentLink3URL: http://pdfserv.maximintegrated.com/package_dwgs/21-0036.PDF
footprint MAXM-U8-1_N (SOP, 8-Leads, Body 3x3mm, Pitch 0.65mm, IPC Medium Density)
footprint MAXM-U8-1_L (SOP, 8-Leads, Body 3x3mm, Pitch 0.65mm, IPC High Density)
footprint MAXM-U8-1_M (SOP, 8-Leads, Body 3x3mm, Pitch 0.65mm, IPC Low Density)
pins: 1 IC "Internally Connected. Connect to GND or leave unconnected.", 2 R+ (out) "Reference Voltage Output. External resistor positive input.", 3 R- (in) "External Resistor Negative Input. Connect R- to the junction of the external resistor and the thermistor.", 4 GND (power) "Ground. Ground connection for MAX6682 and ground return for external thermistor.", 5 ~{CS} (in) "Chip Select. Drive C\S\ low to enable the serial interface.", 6 SO (hiz) "Serial Data Output", 7 SCK (in) "Serial Clock Input", 8 VCC (power) "Positive Supply. Bypass VCC to GND with a 0.1uF capacitor."

## MAX6683AUB
designator U?
Low Voltage Temperature Sensor and System Monitor, 11 Bits Temperature Resolution, -40 to 125 degC, 10-Pin SOP (U10-2); Generic Part Number: MAX6683; PartNumber: MAX6683AUB; Alarm Output: Alert; Functions: Voltage Monitor; Interface: 2-Wire/I2C/SMBus; Multi Droppable: Yes; Parasite Pwr.: No; DatasheetVersion: Rev. 1; PackageVersion: Rev. L, 07/2008; PackageReference: U10-2; PackageDescription: 10-Pin Micro-MAX, Thin Shrink Small-Outline (U10-2), Body 3 x 3 mm, Pitch 0.5 mm; Supplier 1: Mouser; Supplier Part Number 1: N/A; Mounting Technology: Surface Mount; Code_JEDEC: MO-187; ComponentLink1Description: Manufacturer URL; ComponentLink1URL: http://www.maximintegrated.com/; ComponentLink2Description: Datasheet; ComponentLink2URL: http://datasheets.maximintegrated.com/en/ds/MAX6683.pdf; ComponentLink3Description: Package Specification; ComponentLink3URL: http://pdfserv.maximintegrated.com/package_dwgs/21-0061.PDF
footprint MAXM-U10-2_N (SOP, 10-Leads, Body 3x3mm, Pitch 0.5mm, IPC Medium Density)
footprint MAXM-U10-2_L (SOP, 10-Leads, Body 3x3mm, Pitch 0.5mm, IPC High Density)
footprint MAXM-U10-2_M (SOP, 10-Leads, Body 3x3mm, Pitch 0.5mm, IPC Low Density)
pins: 1 1.8VIN (in) "Analog Input. Monitors 1.8V nominal supply.", 2 2.5VIN (in) "Analog Input. Monitors 2.5V nominal supply.", 3 5VIN (in) "Analog Input. Monitors 5V nominal supply.", 4 NC "No Connect. Not internally connected. Connect to GND to improve thermal conductivity.", 5 GND (power) "Ground", 6 ~{ALERT} (oc) "SMBus Alert (Interrupt) Output, Open Drain. Alerts the master that a temperature or voltage limit has been violated.", 7 ADD (in) "SMBus/I2C-Compatible Address Select Input. ADD is sampled at the beginning of each SMBus/I2C transaction, and the 2LSBs of the Slave Address register are detemined by ADD’s connection to GND, SDA, SCL, or VCC.", 8 SDA (io) "SMBus/I2C-Compatible Serial Data Interface", 9 SCL (in) "SMBus/I2C-Compatible Clock Input", 10 VCC (power) "Supply Voltage Input, +2.7V to +5.5V. Also serves as a voltage monitor input. Bypass VCC to GND with a 0.1uF capacitor."

## MAX6683AUB+
designator U?
Low Voltage Temperature Sensor and System Monitor, 11 Bits Temperature Resolution, -40 to 125 degC, 10-Pin SOP (U10+2), Pb-Free; Generic Part Number: MAX6683; PartNumber: MAX6683AUB+; Alarm Output: Alert; Functions: Voltage Monitor; Interface: 2-Wire/I2C/SMBus; Multi Droppable: Yes; Parasite Pwr.: No; DatasheetVersion: Rev. 1; PackageVersion: Rev. L, 07/2008; PackageReference: U10+2; PackageDescription: 10-Pin Micro-MAX, Thin Shrink Small-Outline (U10+2), Body 3 x 3 mm, Pitch 0.5 mm; Supplier 1: Digi-Key; Supplier Part Number 1: MAX6683AUB+-ND; Supplier 2: Mouser; Supplier Part Number 2: 700-MAX6683AUB; Mounting Technology: Surface Mount; Code_JEDEC: MO-187; ComponentLink1Description: Manufacturer URL; ComponentLink1URL: http://www.maximintegrated.com/; ComponentLink2Description: Datasheet; ComponentLink2URL: http://datasheets.maximintegrated.com/en/ds/MAX6683.pdf; ComponentLink3Description: Package Specification; ComponentLink3URL: http://pdfserv.maximintegrated.com/package_dwgs/21-0061.PDF
footprint MAXM-U10+2_N (SOP, 10-Leads, Body 3x3mm, Pitch 0.5mm, IPC Medium Density)
footprint MAXM-U10+2_L (SOP, 10-Leads, Body 3x3mm, Pitch 0.5mm, IPC High Density)
footprint MAXM-U10+2_M (SOP, 10-Leads, Body 3x3mm, Pitch 0.5mm, IPC Low Density)
pins: 1 1.8VIN (in) "Analog Input. Monitors 1.8V nominal supply.", 2 2.5VIN (in) "Analog Input. Monitors 2.5V nominal supply.", 3 5VIN (in) "Analog Input. Monitors 5V nominal supply.", 4 NC "No Connect. Not internally connected. Connect to GND to improve thermal conductivity.", 5 GND (power) "Ground", 6 ~{ALERT} (oc) "SMBus Alert (Interrupt) Output, Open Drain. Alerts the master that a temperature or voltage limit has been violated.", 7 ADD (in) "SMBus/I2C-Compatible Address Select Input. ADD is sampled at the beginning of each SMBus/I2C transaction, and the 2LSBs of the Slave Address register are detemined by ADD’s connection to GND, SDA, SCL, or VCC.", 8 SDA (io) "SMBus/I2C-Compatible Serial Data Interface", 9 SCL (in) "SMBus/I2C-Compatible Clock Input", 10 VCC (power) "Supply Voltage Input, +2.7V to +5.5V. Also serves as a voltage monitor input. Bypass VCC to GND with a 0.1uF capacitor."

## MAX6683AUB+T
designator U?
Low Voltage Temperature Sensor and System Monitor, 11 Bits Temperature Resolution, -40 to 125 degC, 10-Pin SOP (U10+2), Pb-Free, Tape and Reel; Generic Part Number: MAX6683; PartNumber: MAX6683AUB+T; Alarm Output: Alert; Functions: Voltage Monitor; Interface: 2-Wire/I2C/SMBus; Multi Droppable: Yes; Parasite Pwr.: No; DatasheetVersion: Rev. 1; PackageVersion: Rev. L, 07/2008; PackageReference: U10+2; PackageDescription: 10-Pin Micro-MAX, Thin Shrink Small-Outline (U10+2), Body 3 x 3 mm, Pitch 0.5 mm; Supplier 1: Digi-Key; Supplier Part Number 1: MAX6683AUB+T-ND; Supplier 2: Mouser; Supplier Part Number 2: 700-MAX6683AUBT; Packing: Tape and Reel; Mounting Technology: Surface Mount; Code_JEDEC: MO-187; ComponentLink1Description: Manufacturer URL; ComponentLink1URL: http://www.maximintegrated.com/; ComponentLink2Description: Datasheet; ComponentLink2URL: http://datasheets.maximintegrated.com/en/ds/MAX6683.pdf; ComponentLink3Description: Package Specification; ComponentLink3URL: http://pdfserv.maximintegrated.com/package_dwgs/21-0061.PDF
footprint MAXM-U10+2_N (SOP, 10-Leads, Body 3x3mm, Pitch 0.5mm, IPC Medium Density)
footprint MAXM-U10+2_L (SOP, 10-Leads, Body 3x3mm, Pitch 0.5mm, IPC High Density)
footprint MAXM-U10+2_M (SOP, 10-Leads, Body 3x3mm, Pitch 0.5mm, IPC Low Density)
pins: 1 1.8VIN (in) "Analog Input. Monitors 1.8V nominal supply.", 2 2.5VIN (in) "Analog Input. Monitors 2.5V nominal supply.", 3 5VIN (in) "Analog Input. Monitors 5V nominal supply.", 4 NC "No Connect. Not internally connected. Connect to GND to improve thermal conductivity.", 5 GND (power) "Ground", 6 ~{ALERT} (oc) "SMBus Alert (Interrupt) Output, Open Drain. Alerts the master that a temperature or voltage limit has been violated.", 7 ADD (in) "SMBus/I2C-Compatible Address Select Input. ADD is sampled at the beginning of each SMBus/I2C transaction, and the 2LSBs of the Slave Address register are detemined by ADD’s connection to GND, SDA, SCL, or VCC.", 8 SDA (io) "SMBus/I2C-Compatible Serial Data Interface", 9 SCL (in) "SMBus/I2C-Compatible Clock Input", 10 VCC (power) "Supply Voltage Input, +2.7V to +5.5V. Also serves as a voltage monitor input. Bypass VCC to GND with a 0.1uF capacitor."